# EAGLE library part EEPROM-CAT24C256WI-GT3(SOIC8) (library at24c512)
310090035
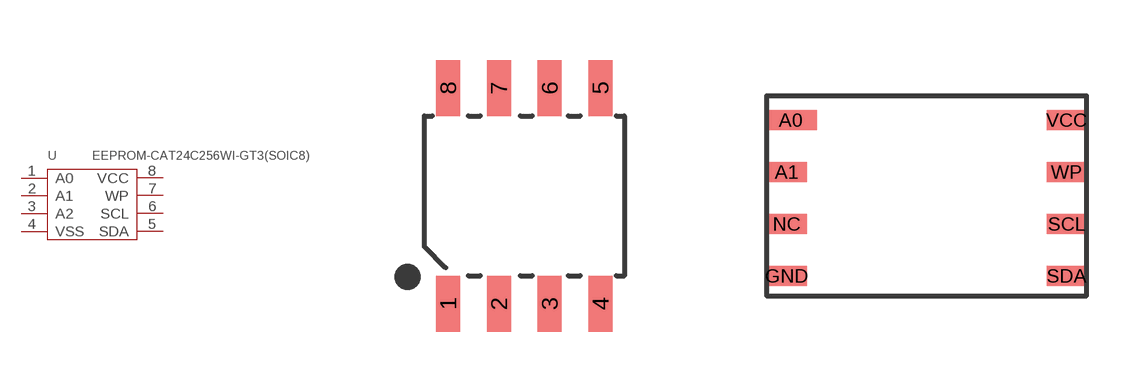
[diagram p0: symbol with the pads of SOIC8-1.27-5X4MM; footprints SOIC8-1.27-5X4MM, QFN]

Designator prefix U

## EEPROM-CAT24C256WI-GT3(SOIC8) (MPN: CAT24C256WI-GT3; VALUE: CAT24C256WI-GT3-SOIC8)  [SOIC8-1.27-5X4MM]
1  A0
2  A1
3  A2
4  VSS
5  SDA
6  SCL
7  WP
8  VCC

## EEPROM-CAT24C256WI-GT3(SOIC8)QFN  [QFN]
A0  A0
A1  A1
GND  VSS
NC  A2
SCL  SCL
SDA  SDA
VCC  VCC
WP  WP

## Footprint SOIC8-1.27-5X4MM (pad centres in mm)
smd 0.6 x 1.4: 1 -1.905,-2.7; 2 -0.635,-2.7; 3 0.635,-2.7; 4 1.905,-2.7; 5 1.905,2.7; 6 0.635,2.7; 7 -0.635,2.7; 8 -1.905,2.7

## Footprint QFN (pad centres in mm)
smd 1.3 x 0.5: A0 -3.6,2.1
smd 1 x 0.5: A1 -3.7,0.8; GND -3.7,-1.8; NC -3.7,-0.5; SCL 3.3,-0.5; SDA 3.3,-1.8; VCC 3.3,2.1; WP 3.3,0.8